# Altium footprint library ASCII Terminal.PcbLib: 20 footprints (part 1 of 2)
Each footprint in its own frame and in the unit in brackets; x right, y up, seen from the top. Pads: shape width x height; smd on the part's side, far side on the other; paste and mask are expansions set on the pad; w line width, h text height; cw(c..) or ccw(c..) is an arc to the next point about the centre after c.
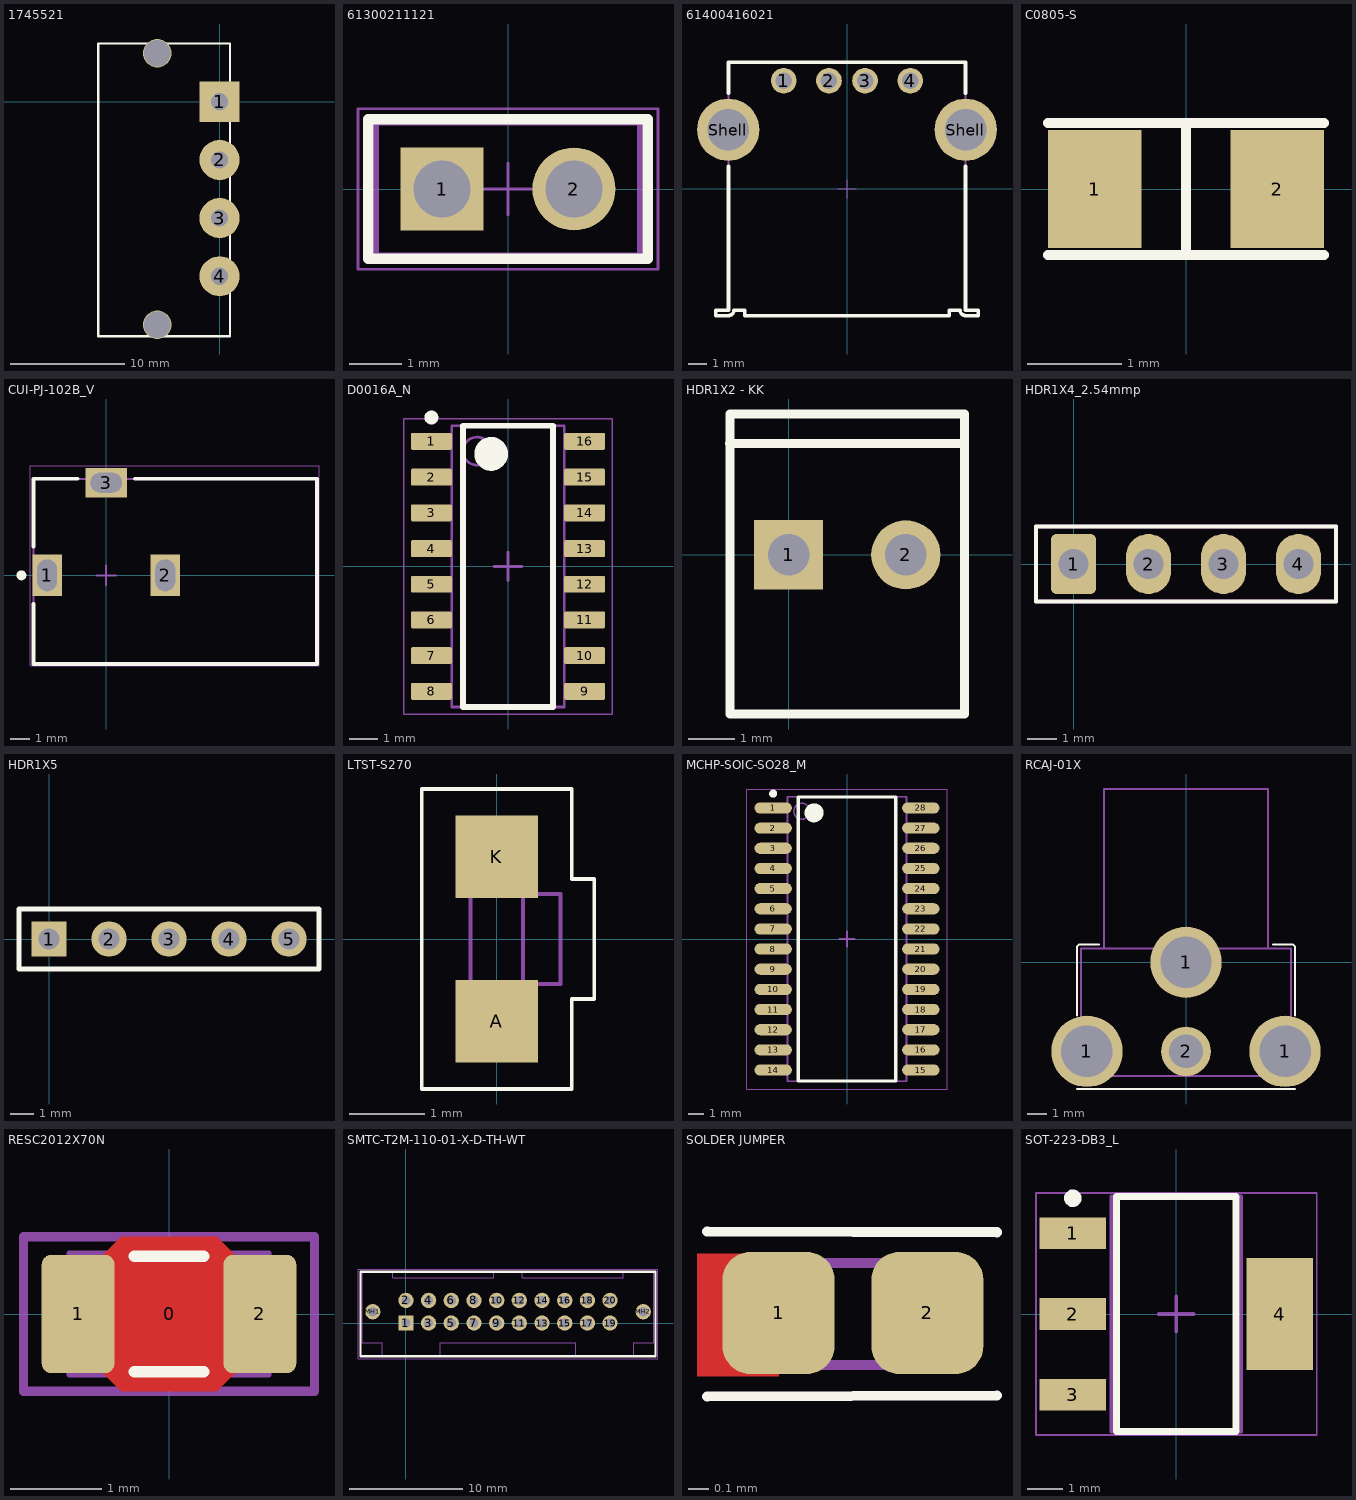
[diagram p0: the footprints below, top view; thin cyan lines are the x and y axes]

## 1745521 [mm] "4PIN RA 5.08 TH CONN DISK DRIVE"
pads (6):
  rect 3.5x3.5 hole 1.5: 1(0,0)
  round 3.5 hole 1.5: 2(0,-5.08) 3(0,-10.16) 4(0,-15.24)
  round 2.5 hole 2.3: ""(-5.45,-19.473) ""(-5.45,4.23)
Top Overlay:
  lines w0.2: -10.59,-20.49 -10.59,5.09 0.91,5.09 0.91,-20.49 -10.59,-20.49
3D body "c-174552-1-c-3d.stp": height 9.43, standoff -4.05, extent -10.642,-20.4 0.882,5.08

## 61300211121 [mm] "Pin Header, pitch 2.54 mm, THT, Vertical, single row, 2p"
height 8.54
pads (2):
  rect 1.6x1.6 hole 1.1: 1(-1.27,0)
  round 1.6 hole 1.1: 2(1.27,0)
Top Overlay:
  lines w0.2: -2.69,-1.345 -2.69,1.345 2.69,1.345 2.69,-1.345 -2.69,-1.345
Mechanical 13:
  lines w0.1: -2.54,-1.27 2.54,-1.27 2.54,1.27 -2.54,1.27 -2.54,-1.27
Mechanical 15:
  lines w0.05: -0.5,0 0.5,0 ; 0,-0.5 0,0.5 ; -2.89,-1.545 2.89,-1.545 2.89,1.545 -2.89,1.545 -2.89,-1.545
3D body "61300211121.stp": height 8.57, standoff -2.97, extent -2.54,-1.27 2.54,1.27

## 61400416021 [mm] "USB 2.0 Type A Horizontal"
height 6.9
pads (6):
  round 1.42 hole 0.92: 1(-3.5,5.99) 2(-1,5.99) 3(1,5.99) 4(3.5,5.99)
  round 3.45 hole 2.3: Shell(-6.57,3.28) Shell(6.57,3.28)
Top Overlay:
  lines w0.2: -6.55,1.26 -6.55,-6.7 -7.25,-6.7 -7.25,-7 -6.56,-7 ccw(c-6.55,-6.7) -6.25,-6.7 -5.65,-6.7 -5.65,-7 5.65,-7 5.65,-6.7 6.25,-6.7 ccw(c6.55,-6.7) 6.56,-7 7.25,-7 7.25,-6.7 6.55,-6.7 6.55,1.26 ; -6.55,5.3 -6.55,7 6.55,7 6.55,5.3
Mechanical 2:
  lines w0.1: -5.65,-7 5.65,-7
Mechanical 13:
  lines w0.1: -7.25,-7 -6.56,-7 ccw(c-6.55,-6.7) -6.25,-6.7 -5.65,-6.7 -5.65,-7 5.65,-7 5.65,-6.7 6.25,-6.7 ccw(c6.55,-6.7) 6.56,-7 7.25,-7 7.25,-6.7 6.55,-6.7 6.55,7 -6.55,7 -6.55,-6.7 -7.25,-6.7 -7.25,-7
Mechanical 15:
  lines w0.05: -0.5,0 0.5,0 ; 0,-0.5 0,0.5
3D body "61400416021.stp": height 7.63, standoff -4.06, extent -7.999,-7 7.999,7

## C0805-S [mil]
height 31.5
pads (2):
  rect 39x49 smd: 1(-38,0) 2(38,0)
Top Overlay:
  lines w4: -57.5,-27.5 57.5,-27.5 ; -57.5,27.5 57.5,27.5 ; 0,-27.5 0,27.5
Mechanical 1:
  lines w4: -57.5,-27.5 57.5,-27.5 ; -57.5,27.5 57.5,27.5
3D body "0805 SMD Capacitor.step": height 30.79, standoff 0, extent -37.4,-23.62 41.34,25.59

## CUI-PJ-102B_V [mm] "THD, 3-Leads, Body 14.4x9mm, Height 11mm"
height 11
pads (3):
  rect 1.5x2.1 hole 1 slot 1.6 at 90 deg: 1(-3,0) 2(3,0)
  rect 2.1x1.5 hole 1 slot 1.6 at 0 deg: 3(0,4.7)
Top Overlay:
  circle w0.25: c-4.3,0 r0.125
  lines w0.2: -3.7,-1.45 -3.7,-4.5 10.7,-4.5 10.7,4.9 1.45,4.9 ; -3.7,1.45 -3.7,4.9 -1.45,4.9
Mechanical 13:
  lines w0.1: -3.7,-4.5 10.7,-4.5 10.7,4.9 -3.7,4.9 -3.7,-4.5
Mechanical 15:
  lines w0.05: -3.85,-4.6 10.8,-4.6 10.8,5.55 -3.85,5.55 -3.85,-4.6
  lines w0.1: -0.5,0 0.5,0 ; 0,-0.5 0,0.5
3D body "pj-102b.stp": height 11, standoff -3.5, extent -3.7,-4.5 10.7,4.9

## D0016A_N [mm] "SOIC, 16-Leads, Body 10x4mm, Pitch 1.27mm, IPC Medium Density"
height 1.75
pads (16):
  rrect17% 1.45x0.6 smd: 1(-2.725,4.445) 2(-2.725,3.175) 3(-2.725,1.905) 4(-2.725,0.635) 5(-2.725,-0.635) 6(-2.725,-1.905) 7(-2.725,-3.175) 8(-2.725,-4.445) 9(2.725,-4.445) 10(2.725,-3.175) 11(2.725,-1.905) 12(2.725,-0.635) 13(2.725,0.635) 14(2.725,1.905) 15(2.725,3.175) 16(2.725,4.445)
Top Overlay:
  circle w0.6: c-0.6,4 r0.3
  circle w0.25: c-2.725,5.295 r0.125
  lines w0.2: -1.6,-5 1.6,-5 1.6,5 -1.6,5 -1.6,-5
Mechanical 1:
  text ".Designator" at -1.575,-0.275 h0.8
Mechanical 13:
  circle w0.1: c-1.1,4.1 r0.5
  lines w0.1: -2,-5 2,-5 2,5 -2,5 -2,-5
Mechanical 15:
  lines w0.05: -3.7,-5.25 3.7,-5.25 3.7,5.25 -3.7,5.25 -3.7,-5.25
  lines w0.1: -0.5,0 0.5,0 ; 0,-0.5 0,0.5
3D body "SOIC-16akaD0016AakaM16A.stp": height 1.59, standoff -0.01, extent -2.997,-4.953 2.997,4.953

## HDR1X2 - KK [mm] "Connector; Header; 2 Position"
pads (2):
  rect 1.5x1.5 hole 0.9: 1(0,0)
  round 1.5 hole 0.9: 2(2.54,0)
Top Overlay:
  lines w0.2: -1.28,2.41 3.8,2.41 ; -1.27,-3.45 3.81,-3.45 3.81,3.05 -1.27,3.05 -1.27,-3.45
3D body "022112022.stp": height 10.68, standoff -3.54, extent -1.174,-3.38 3.754,2.97

## HDR1X4_2.54mmp [mil] "Connector; Header; 4 Position 0.100\" pitch"
pads (4):
  rrect25% 60x80 hole 40: 1(0,0)
  oval 60x80 hole 40: 2(100,0) 3(200,0) 4(300,0)
Top Overlay:
  lines w5: -50,-50 -50,50 350,50 350,-50 -50,-50
Mechanical 13:
  lines w5: -50,-50 350,-50 350,50 -50,50 -50,-50
3D body "c-640456-4-aa-3d.stp": height 395, standoff -140, extent -50,-124.5 350,105.5

## HDR1X5 [mm] "Connector; Header; 5 Position"
pads (5):
  rect 1.5x1.5 hole 0.9: 1(0,0)
  round 1.5 hole 0.9: 2(2.54,0) 3(5.08,0) 4(7.62,0) 5(10.16,0)
Top Overlay:
  lines w0.2: -1.27,-1.27 -1.27,1.27 11.43,1.27 11.43,-1.27 -1.27,-1.27

## LTST-S270 [mm]
height 0.6
pads (2):
  rect 1.1x1.1 smd: A(0,-1.1) K(0,1.1)
Top Overlay:
  lines w0.051: -1,0.7 -1,2 0.1,2 1,2 1,0.8 1.3,0.8 1.3,-0.8 1,-0.8 1,-2 0.7,-2 -1,-2 -1,0.8
Mechanical 1:
  lines w0.051: -0.5,-1 0.5,-1 ; -0.5,1 0.5,1 ; 0.35,-0.6 0.85,-0.6 0.85,0.6 0.35,0.6 ; -0.35,-0.825 0.35,-0.825 0.35,0.825 -0.35,0.825 -0.35,-0.825
  text "A" at -0.1,-1.4 h0.6
  text "K" at -0.1,1.1 h0.6
3D body: height 0.6, standoff 0, extent 0.35,-0.6 0.85,0.6
3D body: height 0.6, standoff 0, extent -0.35,-0.85 0.35,0.85

## MCHP-SOIC-SO28_M [mm] "SOIC, 28-Leads, Body 17.9x7.5mm, Pitch 1.27mm, IPC Low Density"
height 2.65
pads (28):
  oval 2.35x0.7 smd: 1(-4.65,8.255) 2(-4.65,6.985) 3(-4.65,5.715) 4(-4.65,4.445) 5(-4.65,3.175) 6(-4.65,1.905) 7(-4.65,0.635) 8(-4.65,-0.635) 9(-4.65,-1.905) 10(-4.65,-3.175) 11(-4.65,-4.445) 12(-4.65,-5.715) 13(-4.65,-6.985) 14(-4.65,-8.255) 15(4.65,-8.255) 16(4.65,-6.985) 17(4.65,-5.715) 18(4.65,-4.445) 19(4.65,-3.175) 20(4.65,-1.905) 21(4.65,-0.635) 22(4.65,0.635) 23(4.65,1.905) 24(4.65,3.175) 25(4.65,4.445) 26(4.65,5.715) 27(4.65,6.985) 28(4.65,8.255)
Top Overlay:
  circle w0.25: c-4.65,9.155 r0.125
  circle w0.6: c-2.075,7.95 r0.3
  lines w0.2: -3.075,-8.95 -3.075,8.95 3.075,8.95 3.075,-8.95 -3.075,-8.95
Mechanical 13:
  circle w0.1: c-2.85,8.05 r0.5
  lines w0.1: -3.75,-8.95 -3.75,8.95 3.75,8.95 3.75,-8.95 -3.75,-8.95
Mechanical 15:
  lines w0.05: -6.3,-9.45 -6.3,9.45 6.3,9.45 6.3,-9.45 -6.3,-9.45
  lines w0.1: -0.5,0 0.5,0 ; 0,-0.5 0,0.5
3D body: height 2.65, standoff 0.1, extent -3.75,-8.95 3.75,8.95

## RCAJ-01X [mm]
height 12
pads (4):
  round 3.6 hole 2.6: 1(-5,-4.5) 1(0,0) 1(5,-4.5)
  round 2.5 hole 1.7: 2(0,-4.5)
Top Overlay:
  lines w0.102: -5.5,-6.4 5.5,-6.4 ; -5.5,-2.7 -5.5,0.8 -5.4,0.9 -4.4,0.9 ; 4.4,0.9 5.4,0.9 5.5,0.8 5.5,-2.7
Mechanical 1:
  lines w0.1: -4.15,0.7 -4.15,8.75 4.15,8.75 4.15,0.7 ; -5.3,-5.75 5.3,-5.75 5.3,0.7 -2.375,0.7 -5.3,0.7 -5.3,-5.75
  text ".Designator" at -2.4,-2.7 h1
3D body "RCA-01X.STEP": height 11.9, standoff -4.3, extent -5.8,-5.75 5.8,8.75

## RESC2012X70N [mm] "Chip Resistor, Body 2.0x1.2mm, EIA 0805, IPC Medium Density"
height 0.7
pads (3):
  round 0.254 on Mech15: 0(0,0)
  rrect25% 0.8x1.3 smd: 1(-1,0) 2(1,0)
Top Layer:
  pour cut-out: -0.725,0.65 -0.525,0.85 0.525,0.85 0.725,0.65 0.725,-0.65 0.525,-0.85 -0.525,-0.85 -0.725,-0.65
Top Overlay:
  lines w0.127: -0.381,-0.635 0.381,-0.635 ; -0.381,0.635 0.381,0.635
Mechanical 13:
  lines w0.05: 0.6,-0.674 -0.6,-0.674 ; -0.6,-0.675 -0.6,0.675 -1.1,0.675 -1.1,-0.675 -0.6,-0.675 ; -0.6,-0.674 0.6,-0.674 ; 0.6,-0.675 0.6,0.675 ; 0.6,-0.675 1.1,-0.675 1.1,0.675 0.6,0.675 ; 0.6,0.674 -0.6,0.674 0.6,0.674
Mechanical 15:
  lines w0.1: -1.6,-0.85 1.6,-0.85 1.6,0.85 -1.6,0.85 -1.6,-0.85
3D body "RES 0805 (2012 metric).STEP": height 0.69, standoff -0.01, extent -1.1,-0.675 1.1,0.675

## SMTC-T2M-110-01-X-D-TH-WT [mm] "Shrouded Terminal Strip, 2x10 Pins, Vertical, 2mm Pitch, Male"
height 5.79
pads (22):
  rect 1.35x1.35 hole 0.813: 1(0,0)
  round 1.35 hole 0.813: 2(0,2) 3(2,0) 4(2,2) 5(4,0) 6(4,2) 7(6,0) 8(6,2) 9(8,0) 10(8,2) 11(10,0) 12(10,2) 13(12,0) 14(12,2) 15(14,0) 16(14,2) 17(16,0) 18(16,2) 19(18,0) 20(18,2) MH1(-2.925,1) MH2(20.925,1)
Top Overlay:
  lines w0.2: -4,-2.92 -4,4.52 22,4.52 22,-2.92 -4,-2.92
Mechanical 13:
  lines w0.1: -3.835,-1.74 -3.835,4.52 -1.175,4.52 -1.175,4.01 7.73,4.01 7.73,4.52 10.27,4.52 10.27,4.01 19.175,4.01 19.175,4.52 21.835,4.52 21.835,-1.74 20.065,-1.74 20.065,-2.92 14.985,-2.92 14.985,-1.74 3.015,-1.74 3.015,-2.92 -2.065,-2.92 -2.065,-1.74 -3.835,-1.74
Mechanical 15:
  lines w0.05: -4.225,-3.145 22.225,-3.145 22.225,4.745 -4.225,4.745 -4.225,-3.145

## SOLDER JUMPER [mm]
pads (2):
  rrect50% 0.55x0.6 smd: 1(-63.06,-72.23) 2(-62.33,-72.23)
Top Layer:
  pour cut-out: -63.46,-72.54 -63.06,-72.54 -63.06,-71.94 -63.46,-71.94
Top Overlay:
  lines w0.051: -63.41,-72.64 -61.988,-72.635 ; -63.41,-71.83 -61.988,-71.835
Mechanical 1:
  lines w0.051: -63.338,-72.485 -62.338,-72.485 -62.338,-71.985 -63.338,-71.985 -63.338,-72.485

## SOT-223-DB3_L [mm] "SOT223, 4-Leads, Body 6.5x3.5mm, Pitch 2.3mm, Lead Span 7mm, IPC High Density"
height 1.8
pads (4):
  rect 1.9x0.9 smd: 1(-2.95,2.3) 2(-2.95,0) 3(-2.95,-2.3)
  rect 1.9x3.2 smd: 4(2.95,0)
Top Overlay:
  circle w0.25: c-2.95,3.3 r0.125
  lines w0.2: -1.7,-3.35 1.7,-3.35 1.7,3.35 -1.7,3.35 -1.7,-3.35
Mechanical 13:
  lines w0.1: -1.85,-3.35 1.85,-3.35 1.85,3.35 -1.85,3.35 -1.85,-3.35
Mechanical 15:
  lines w0.05: -4,-3.45 4,-3.45 4,3.45 -4,3.45 -4,-3.45
  lines w0.1: -0.5,0 0.5,0 ; 0,-0.5 0,0.5
3D body: height 1.8, standoff 0.02, extent -1.85,-3.35 1.85,3.35